# EAGLE library part INPUTOUTPUTIO_677006144621 (library eagle-template-export)
WR-COM Vertical Receptacle IEEE 1394 / Fire Wire, 6 pins
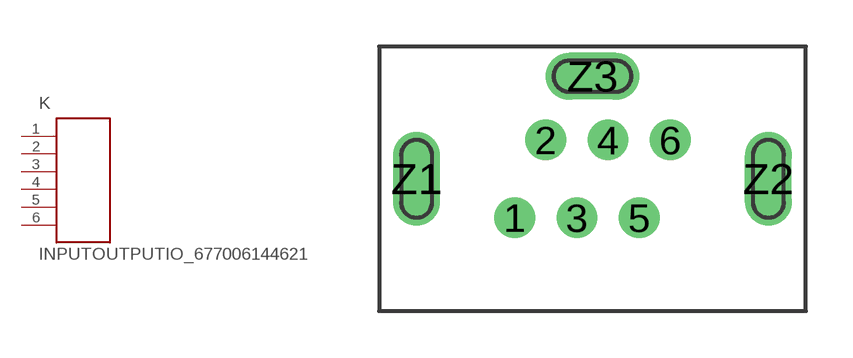
[diagram p2: symbol with the pads of INPUTOUTPUTIO_677006144621; footprint INPUTOUTPUTIO_677006144621]

Designator prefix K

## INPUTOUTPUTIO_677006144621  [INPUTOUTPUTIO_677006144621]
1  1  pas
2  2  pas
3  3  pas
4  4  pas
5  5  pas
6  6  pas

## Footprint INPUTOUTPUTIO_677006144621 (pad centres in mm)
WR-COM Vertical Receptacle IEEE 1394 / Fire Wire, 6 pins
drill 0.8: 1 -2.5,-1.25; 2 -1.5,1.25; 3 -0.5,-1.25; 4 0.5,1.25; 5 1.5,-1.25; 6 2.5,1.25
drill 1 long: Z1 -5.65,0; Z2 5.65,0; Z3 0,3.3